# Altium footprint library Wireless Modules.PcbLib: 3 footprints
Each footprint in its own frame and in the unit in brackets; x right, y up, seen from the top. Pads: shape width x height; smd on the part's side, far side on the other; paste and mask are expansions set on the pad; w line width, h text height; cw(c..) or ccw(c..) is an arc to the next point about the centre after c.
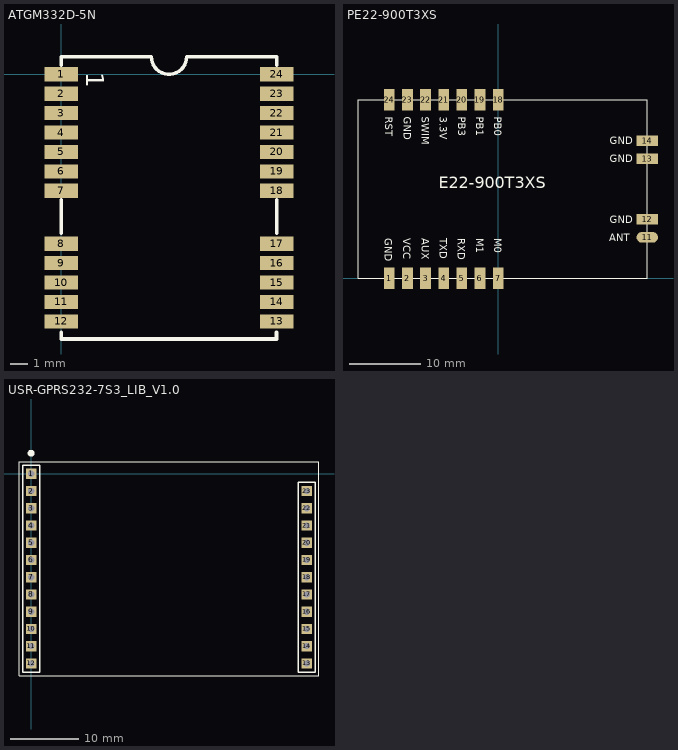
[diagram p0: the footprints below, top view; thin cyan lines are the x and y axes]

## ATGM332D-5N [mm]
pads (24):
  rect 1.9x0.8 smd: 1(0,0) 2(0,-1.1) 3(0,-2.2) 4(0,-3.3) 5(0,-4.4) 6(0,-5.5) 7(0,-6.6) 8(0,-9.6) 9(0,-10.7) 10(0,-11.8) 11(0,-12.9) 12(0,-14) 13(12.2,-14) 14(12.2,-12.9) 15(12.2,-11.8) 16(12.2,-10.7) 17(12.2,-9.6) 18(12.2,-6.6) 19(12.2,-5.5) 20(12.2,-4.4) 21(12.2,-3.3) 22(12.2,-2.2) 23(12.2,-1.1) 24(12.2,0)
Top Overlay:
  lines w0.2: 0,-15 12.2,-15 ; 0,-14.986 0,-14.605 ; 0,-9.017 0,-7.112 ; 0,0.508 0,1 5.1,1 ccw(c6.1,1) 7.1,1 12.2,1 12.2,0.508 ; 12.192,-14.986 12.192,-14.605 ; 12.2,-9.017 12.2,-7.112
  text "1" at 1.397,0.127 h1.02
3D body "User Library-ATGM332D-5N31.STEP": height 2.15, standoff 0, extent -0.004,-14.986 12.196,1.014

## PE22-900T3XS [mm] "40.5mm*25mm*3.80mm-S"
pads (18):
  rect 1.5x3 smd: 1(-15.24,0) 2(-12.7,0) 3(-10.16,0) 4(-7.62,0) 5(-5.08,0) 6(-2.54,0) 7(0,0) 18(0,25) 19(-2.54,25) 20(-5.08,25) 21(-7.62,25) 22(-10.16,25) 23(-12.7,25) 24(-15.24,25)
  oval 3x1.5 smd: 11(20.88,5.73)
  rect 3x1.5 smd: 12(20.88,8.27) 13(20.88,16.73) 14(20.88,19.27)
Top Overlay:
  lines w0.127: -19.62,0 -19.62,25 20.88,25 20.88,0 -19.62,0
  text "E22-900T3XS" at -8.317,12.065 h2.8
  text "GND" at 15.602,7.72 h1
  text "ANT" at 15.554,5.17 h1
  text "M0" at -0.577,5.575 h1
  text "M1" at -3.087,5.575 h1
  text "RXD" at -5.637,5.575 h1
  text "TXD" at -8.167,5.575 h1
  text "AUX" at -10.707,5.575 h1
  text "VCC" at -13.257,5.575 h1
  text "GND" at -15.847,5.575 h1
  text "RST" at -15.827,22.592 h1
  text "GND" at -13.237,22.592 h1
  text "3.3V" at -8.147,22.592 h1
  text "PB3" at -5.617,22.592 h1
  text "PB1" at -3.067,22.592 h1
  text "PB0" at -0.557,22.592 h1
  text "GND" at 15.602,16.22 h1
  text "GND" at 15.602,18.73 h1
  text "SWIM" at -10.73,22.606 h1
3D body "E32-XXXT33S(3D).step": height 3.82, standoff 0.02, extent -19.685,0 20.815,25

## USR-GPRS232-7S3_LIB_V1.0 [mm]
pads (23):
  rect 1.5x1.5 hole 0.9: 1(0,0) 2(0,-2.54) 3(0,-5.08) 4(0,-7.62) 5(0,-10.16) 6(0,-12.7) 7(0,-15.24) 8(0,-17.78) 9(0,-20.32) 10(0,-22.86) 11(0,-25.4) 12(0,-27.94) 13(40.6,-27.94) 14(40.6,-25.4) 15(40.6,-22.86) 16(40.6,-20.32) 17(40.6,-17.78) 18(40.6,-15.24) 19(40.6,-12.7) 20(40.6,-10.16) 21(40.6,-7.62) 22(40.6,-5.08) 23(40.6,-2.54)
Top Overlay:
  circle w0.762: c-0.022,3.03 r0.127
  lines w0.152: -1.8,-29.74 -1.8,1.76 42.4,1.76 42.4,-29.74 -1.8,-29.74
  lines w0.2: -1.27,-29.21 -1.27,1.27 1.27,1.27 1.27,-0.635 1.27,-29.21 -1.27,-29.21 ; 39.33,-29.21 39.33,-1.27 41.87,-1.27 41.87,-3.175 41.87,-29.21 39.33,-29.21
3D body "C2833614_GSM-TH_WH-LTE-7S1.step": height 8.14, standoff -5.86, extent -1.93,-29.87 42.57,1.93